# EAGLE library part LT1161 (library Oles komponentbibliotek)
Quad protected high-side MOSFET driver
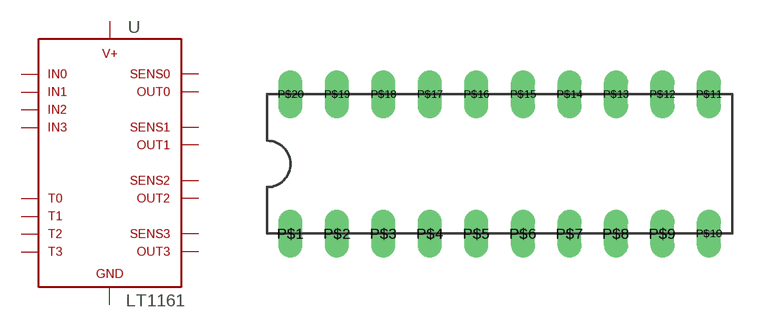
[diagram p30: symbol with the pads of DIL20; footprint DIL20]

Designator prefix -

## LT1161  [DIL20]
P$1  GND  pwr
P$2  T0  pas
P$3  IN0  in
P$4  T1  pas
P$5  IN1  in
P$6  T2  pas
P$7  IN2  in
P$8  T3  pas
P$9  IN3  in
P$10  GND  pwr
P$11  V+  pwr
P$12  OUT3  out
P$13  SENSE3  pas
P$14  OUT2  out
P$15  SENSE2  pas
P$16  OUT1  out
P$17  SENSE1  pas
P$18  OUT0  out
P$19  SENSE0  pas
P$20  V+  pwr

## Footprint DIL20 (pad centres in mm)
drill 0.8 long: P$1 -11.43,-3.81; P$2 -8.89,-3.81; P$3 -6.35,-3.81; P$4 -3.81,-3.81; P$5 -1.27,-3.81; P$6 1.27,-3.81; P$7 3.81,-3.81; P$8 6.35,-3.81; P$9 8.89,-3.81; P$10 11.43,-3.81; P$11 11.43,3.81; P$12 8.89,3.81; P$13 6.35,3.81; P$14 3.81,3.81; P$15 1.27,3.81; P$16 -1.27,3.81; P$17 -3.81,3.81; P$18 -6.35,3.81; P$19 -8.89,3.81; P$20 -11.43,3.81